# Altium footprint library myPcbLib1.PcbLib: 133 footprints (part 3 of 9)
Each footprint in its own frame and in the unit in brackets; x right, y up, seen from the top. Pads: shape width x height; smd on the part's side, far side on the other; paste and mask are expansions set on the pad; w line width, h text height; cw(c..) or ccw(c..) is an arc to the next point about the centre after c.
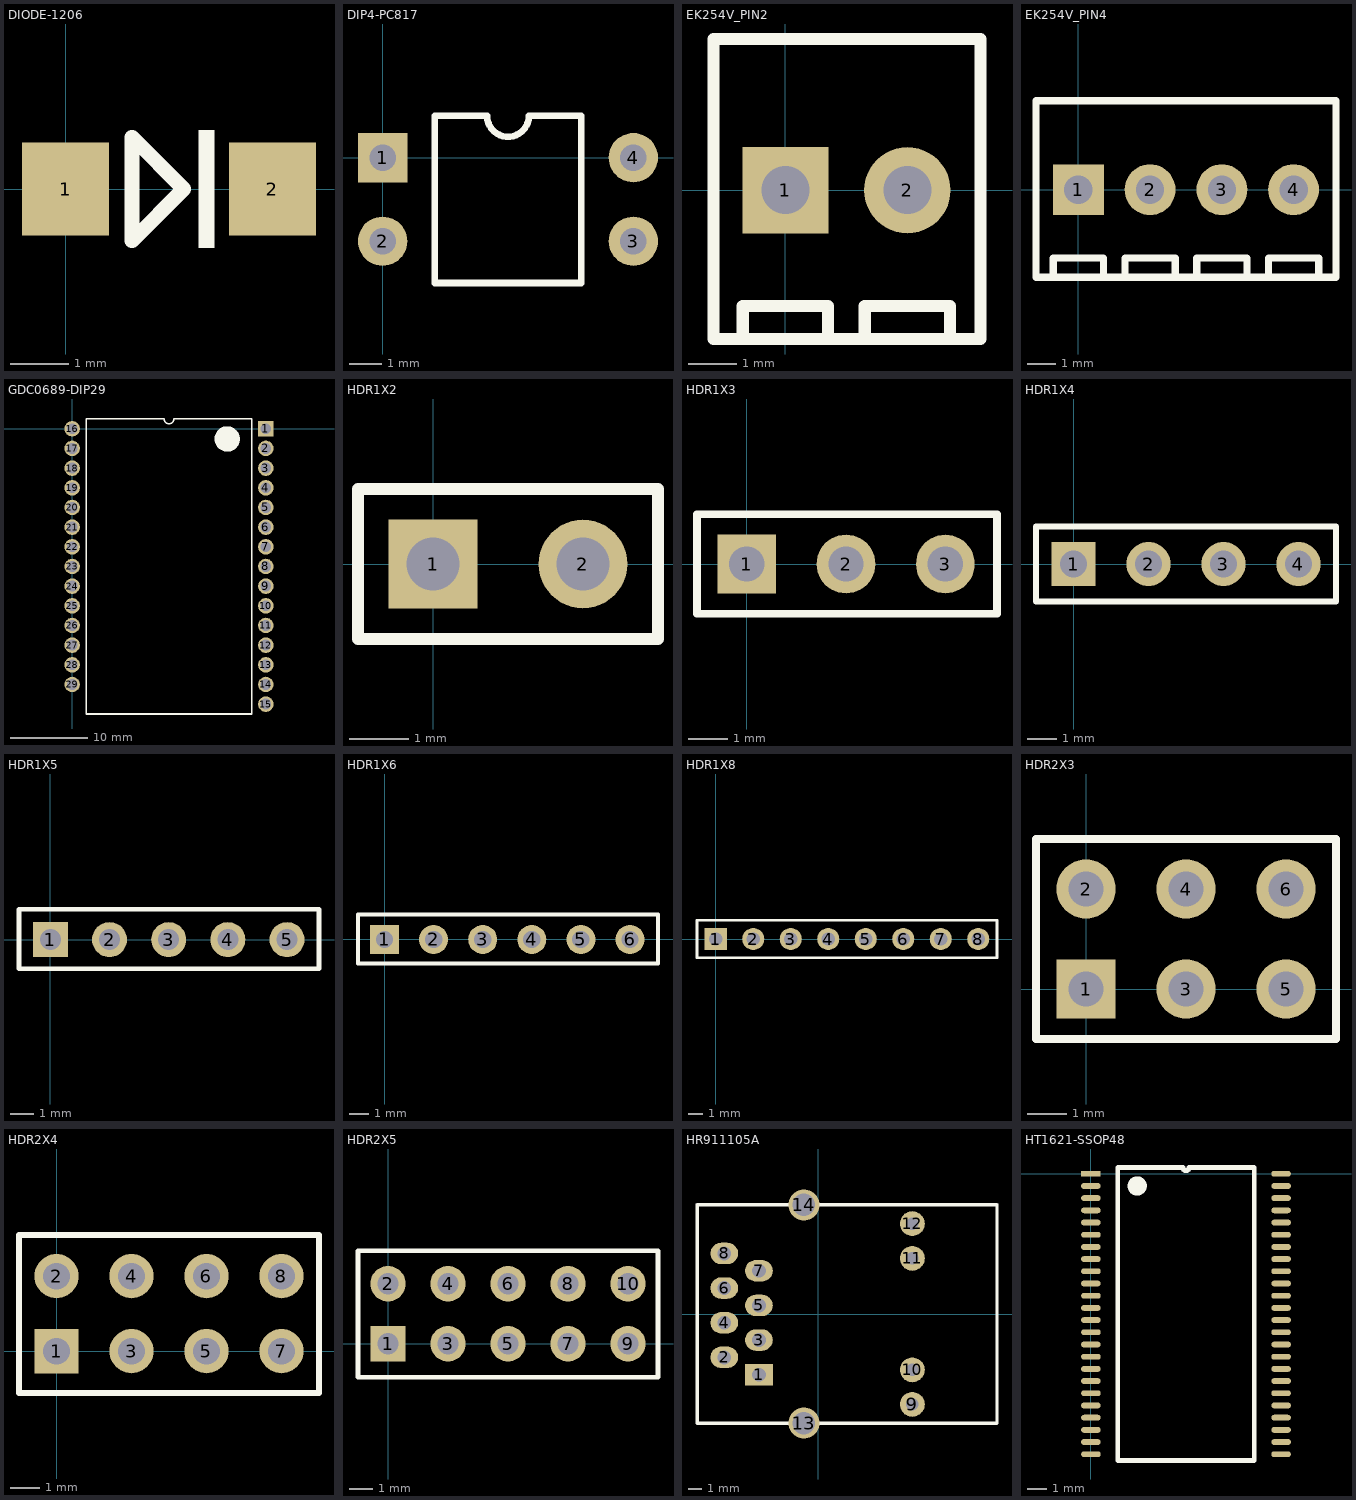
[diagram p2: the footprints below, top view; thin cyan lines are the x and y axes]

## DIODE-1206 [mm]
pads (2):
  rect 1.5x1.6 smd: 1(0,0) 2(3.556,0)
Top Overlay:
  rectangle: 2.286,-1.016 2.559,1.016
  lines w0.254: 1.143,-0.889 1.143,0.889 2.032,0 1.143,-0.889

## DIP4-PC817 [mm]
pads (4):
  rect 1.5x1.5 hole 0.8: 1(0,0)
  round 1.5 hole 0.8: 2(0,-2.54) 3(7.62,-2.54) 4(7.62,0)
Top Overlay:
  lines w0.2: 1.585,-3.81 1.585,1.27 3.175,1.27 ccw(c3.81,1.27) 4.445,1.27 6.035,1.27 6.035,-3.81 1.585,-3.81

## EK254V_PIN2 [mm]
pads (2):
  rect 1.8x1.8 hole 1: 1(0,0)
  round 1.8 hole 1: 2(2.54,0)
Top Overlay:
  lines w0.254: -0.889,-3.048 -0.889,-2.413 0.889,-2.413 0.889,-3.048 ; 1.651,-3.048 1.651,-2.413 3.429,-2.413 3.429,-3.048 ; -1.5,-3.1 -1.5,3.15 4.064,3.15 4.064,-3.1 -1.5,-3.1

## EK254V_PIN4 [mm]
pads (4):
  rect 1.8x1.8 hole 1: 1(0,0)
  round 1.8 hole 1: 2(2.54,0) 3(5.08,0) 4(7.62,0)
Top Overlay:
  lines w0.254: -0.889,-3.048 -0.889,-2.413 0.889,-2.413 0.889,-3.048 ; 1.651,-3.048 1.651,-2.413 3.429,-2.413 3.429,-3.048 ; 4.191,-3.048 4.191,-2.413 5.969,-2.413 5.969,-3.048 ; 6.731,-3.048 6.731,-2.413 8.509,-2.413 8.509,-3.048 ; -1.5,-3.1 -1.5,3.15 9.12,3.15 9.12,-3.1 -1.5,-3.1

## GDC0689-DIP29 [mm]
pads (29):
  rect 2x2 hole 1.4: 1(25,0)
  round 2 hole 1.4: 2(25,-2.54) 3(25,-5.08) 4(25,-7.62) 5(25,-10.16) 6(25,-12.7) 7(25,-15.24) 8(25,-17.78) 9(25,-20.32) 10(25,-22.86) 11(25,-25.4) 12(25,-27.94) 13(25,-30.48) 14(25,-33.02) 15(25,-35.56) 16(0,0) 17(0,-2.54) 18(0,-5.08) 19(0,-7.62) 20(0,-10.16) 21(0,-12.7) 22(0,-15.24) 23(0,-17.78) 24(0,-20.32) 25(0,-22.86) 26(0,-25.4) 27(0,-27.94) 28(0,-30.48) 29(0,-33.02)
Top Overlay:
  lines w0.2: 1.835,-36.83 1.835,1.27 11.865,1.27 ccw(c12.5,1.27) 13.135,1.27 23.165,1.27 23.165,-36.83 1.835,-36.83
  lines w1.6: 20.848,-1.372 cw(c20.013,-1.325) 20.849,-1.297

## HDR1X2 [mm]
pads (2):
  rect 1.5x1.5 hole 0.9: 1(0,0)
  round 1.5 hole 0.9: 2(2.54,0)
Top Overlay:
  lines w0.2: -1.27,-1.27 3.81,-1.27 3.81,1.27 -1.27,1.27 -1.27,-1.27

## HDR1X3 [mm]
pads (3):
  rect 1.5x1.5 hole 0.9: 1(0,0)
  round 1.5 hole 0.9: 2(2.54,0) 3(5.08,0)
Top Overlay:
  lines w0.2: -1.27,-1.27 -1.27,1.27 6.401,1.27 6.401,-1.27 -1.27,-1.27

## HDR1X4 [mm]
pads (4):
  rect 1.5x1.5 hole 0.9: 1(0,0)
  round 1.5 hole 0.9: 2(2.54,0) 3(5.08,0) 4(7.62,0)
Top Overlay:
  lines w0.2: -1.27,-1.27 -1.27,1.27 8.89,1.27 8.89,-1.27 -1.27,-1.27

## HDR1X5 [mm]
pads (5):
  rect 1.5x1.5 hole 0.9: 1(0,0)
  round 1.5 hole 0.9: 2(2.54,0) 3(5.08,0) 4(7.62,0) 5(10.16,0)
Top Overlay:
  lines w0.2: -1.346,-1.245 11.532,-1.245 11.532,1.295 -1.346,1.295 -1.346,-1.245

## HDR1X6 [mm]
pads (6):
  rect 1.5x1.5 hole 0.9: 1(0,0)
  round 1.5 hole 0.9: 2(2.54,0) 3(5.08,0) 4(7.62,0) 5(10.16,0) 6(12.7,0)
Top Overlay:
  lines w0.2: -1.372,-1.245 -1.372,1.295 14.148,1.295 14.148,-1.245 -1.372,-1.245

## HDR1X8 [mm]
pads (8):
  rect 1.5x1.5 hole 0.9: 1(0,0)
  round 1.5 hole 0.9: 2(2.54,0) 3(5.08,0) 4(7.62,0) 5(10.16,0) 6(12.7,0) 7(15.24,0) 8(17.78,0)
Top Overlay:
  lines w0.2: -1.27,-1.27 19.05,-1.27 19.05,1.27 -1.27,1.27 -1.27,-1.27

## HDR2X3 [mm]
pads (6):
  rect 1.5x1.5 hole 0.9: 1(0,0)
  round 1.5 hole 0.9: 2(0,2.54) 3(2.54,0) 4(2.54,2.54) 5(5.08,0) 6(5.08,2.54)
Top Overlay:
  lines w0.2: 1.482,-1.27 6.35,-1.27 ; 6.35,-1.27 6.35,3.81 -1.27,3.81 -1.27,-1.27 6.35,-1.27

## HDR2X4 [mm]
pads (8):
  rect 1.5x1.5 hole 0.9: 1(0,0)
  round 1.5 hole 0.9: 2(0,2.54) 3(2.54,0) 4(2.54,2.54) 5(5.08,0) 6(5.08,2.54) 7(7.62,0) 8(7.62,2.54)
Top Overlay:
  lines w0.2: -1.27,-1.422 8.89,-1.422 8.89,3.937
  lines w0.203: -1.27,-1.422 -1.27,3.937 8.89,3.937

## HDR2X5 [mm]
pads (10):
  rect 1.5x1.5 hole 0.9: 1(0,0)
  round 1.5 hole 0.9: 2(0,2.54) 3(2.54,0) 4(2.54,2.54) 5(5.08,0) 6(5.08,2.54) 7(7.62,0) 8(7.62,2.54) 9(10.16,0) 10(10.16,2.54)
Top Overlay:
  lines w0.2: -1.27,-1.422 11.43,-1.422 11.43,3.937
  lines w0.203: -1.27,-1.422 -1.27,3.937 11.43,3.937

## HR911105A [mil]
pads (14):
  rect 80x62 hole 40: 1(-171.46,-175.2)
  oval 80x62 hole 40: 2(-271.46,-125.2) 3(-171.46,-75.2) 4(-271.46,-25.2) 5(-171.46,24.8) 6(-271.46,74.8) 7(-171.46,124.8) 8(-271.46,174.8)
  round 72 hole 36: 9(271.46,-260.83) 10(271.46,-161.2) 11(271.46,160.67) 12(271.46,260.8)
  round 90 hole 65: 13(-41.54,-314.96) 14(-41.54,314.96)
Top Overlay:
  lines w10: -350.2,-315.2 -349.96,-314.96 ; -350.2,314.8 -350.04,314.96 ; -350.04,314.96 -41.54,314.96 515.79,314.96 515.95,314.8 515.95,-315.2 515.71,-314.96 -41.54,-314.96 -349.96,-314.96 ; -350.04,314.96 -350.04,-314.88 -349.96,-314.96
Multi-Layer:
  circle w5: c88.54,-225.2 r70.8
  circle w5: c88.54,224.8 r70.8

## HT1621-SSOP48 [mil]
pads (48):
  rect 40x12 smd: 1(0,0)
  oval 40x12 smd: 2(0,-25) 3(0,-50) 4(0,-75) 5(0,-100) 6(0,-125) 7(0,-150) 8(0,-175) 9(0,-200) 10(0,-225) 11(0,-250) 12(0,-275) 13(0,-300) 14(0,-325) 15(0,-350) 16(0,-375) 17(0,-400) 18(0,-425) 19(0,-450) 20(0,-475) 21(0,-500) 22(0,-525) 23(0,-550) 24(0,-575) 25(390,-575) 26(390,-550) 27(390,-525) 28(390,-500) 29(390,-475) 30(390,-450) 31(390,-425) 32(390,-400) 33(390,-375) 34(390,-350) 35(390,-325) 36(390,-300) 37(390,-275) 38(390,-250) 39(390,-225) 40(390,-200) 41(390,-175) 42(390,-150) 43(390,-125) 44(390,-100) 45(390,-75) 46(390,-50) 47(390,-25) 48(390,0)
Top Overlay:
  circle w23.62: c95,-25 r7.81
  lines w10: 55,-587.5 335,-587.5 335,12.5 201.25,12.5 cw(c195,12.5) 188.75,12.5 55,12.5 55,-587.5